# Altium schematic symbol library ANT.SchLib: 5 symbols
Pins are listed as number, name and electrical type; pins without a type are passive.

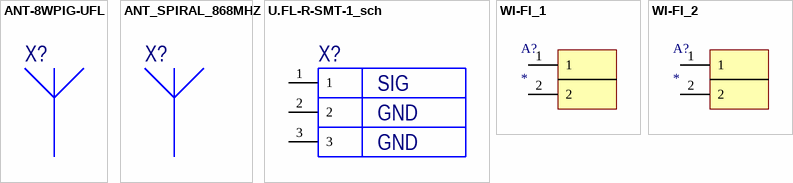
[diagram p0: symbols ANT-8WPIG-UFL to WI-FI_2]

## ANT-8WPIG-UFL
designator X?  (mechanical)
RF ANT 868MHZ WHIP STR U.FL 50MM; Manufacturer: RF Solutions; Manufacturer Part Number: ANT-8WPIG-UFL; Category: RF/IF and RFID

## ANT_SPIRAL_868MHZ
designator X?  (mechanical)
868MHZ HELICAL ANTENNA; Manufacturer: China; Manufacturer Part Number: SW868-TH13; TH: 1

## U.FL-R-SMT-1_sch
designator X?
CONN U.FL RCPT STR 50 OHM SMD; Manufacturer: Hirose; Manufacturer Part Number: U.FL-R-SMT-1(10); Category: Connectors, Interconnects; SMD: 1
footprint U.FL-R-SMT-1
pins: 1, 2, 3
text: SIG; GND

## WI-FI_1
designator A?
pins: 1, 2

## WI-FI_2
designator A?
pins: 1, 2